# Altium integrated library Power Distributer Switch.IntLib: 1 symbol
Pins are listed as number, name and electrical type; pins without a type are passive.

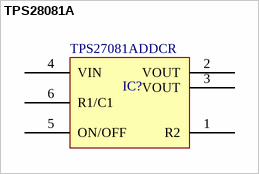
[diagram p0: symbol TPS28081A]

## TPS28081A
designator IC?, comment TPS27081ADDCR
IC PWR SWITCH 1:1 TSOT23-6; Vin Max: 8V; Max Current: 3A; Max Pulse Current: 9.5A; Operation Temprature: -40 ~ 85; Vin Min: 1.2V; Vout Max: 8V; Supplier 1: Digi-Key; ComponentLink1Description: Datasheet; ComponentLink1URL: https://www.ti.com/lit/gpn/tps27081a; ComponentLink2Description: Digikey Listing; ComponentLink2URL: https://www.digikey.com/en/products/detail/texas-instruments/TPS27081ADDCR/3671584; Supplier Part Number 1: 296-34970-1-ND; Part Number: TPS27081ADDCR
footprint TI SOT-23-6 DDC (SOT23, 6-Leads, Body 2.90x2.80mm, Pitch 0.95mm, IPC Medium Density)
pins: 1 R2, 2 VOUT, 3 VOUT, 4 VIN, 5 ON/OFF, 6 R1/C1